# Altium footprint library PCB - CONNECTOR - WURTH - WURTH SMP 60114102122403.PcbLib: 1 footprints
Each footprint in its own frame and in the unit in brackets; x right, y up, seen from the top. Pads: shape width x height; smd on the part's side, far side on the other; paste and mask are expansions set on the pad; w line width, h text height; cw(c..) or ccw(c..) is an arc to the next point about the centre after c.
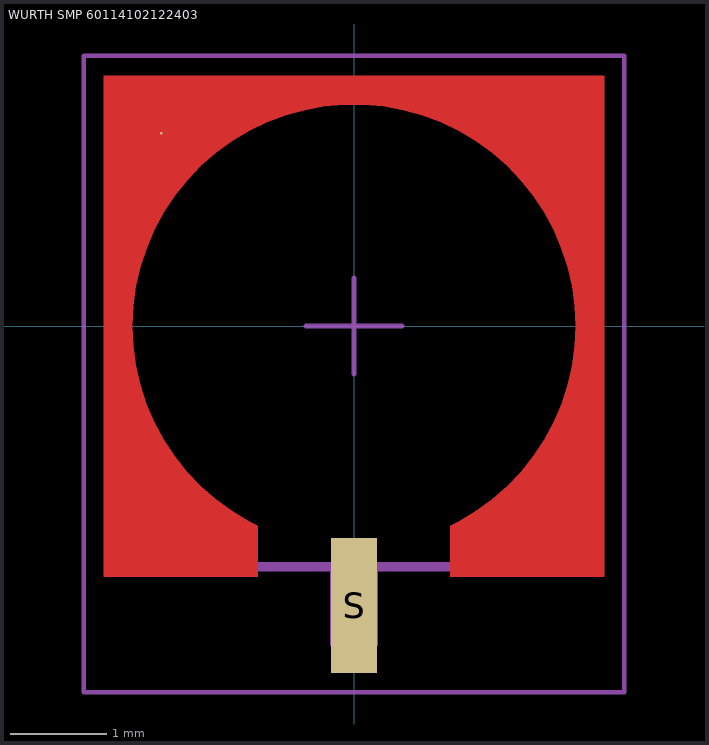
[diagram p0: the footprint, top view; thin cyan lines are the x and y axes]

## WURTH SMP 60114102122403 [mm] "SMP PCB SMT Plug"
height 4.1
pads (2):
  round 0.025 smd: G(-2,2)
  rect 0.48x1.4 smd: S(0,-2.9)
Top Layer:
  region: -2.6,-2.6 -2.6,2.6 2.6,2.6 2.6,-2.6 1,-2.6 1,-2.071 1.092,-2.024 1.269,-1.918 1.436,-1.797 1.591,-1.661 1.733,-1.512 1.862,-1.35 1.975,-1.178 2.073,-0.996 2.154,-0.807 2.218,-0.61 2.263,-0.409 2.291,-0.205 2.3,0.001 2.291,0.207 2.263,0.412 2.217,0.613 2.153,0.809 2.072,0.999 1.974,1.18 1.86,1.353 1.732,1.514 1.589,1.663 1.434,1.799 1.267,1.92 1.09,2.026 0.904,2.115 0.71,2.188 0.512,2.242 0.309,2.279 0.103,2.298 -0.103,2.298 -0.309,2.279 -0.512,2.242 -0.71,2.188 -0.904,2.115 -1.09,2.026 -1.267,1.92 -1.434,1.799 -1.589,1.663 -1.732,1.514 -1.86,1.353 -1.974,1.18 -2.072,0.999 -2.153,0.809 -2.217,0.613 -2.263,0.412 -2.291,0.207 -2.3,0.001 -2.291,-0.205 -2.263,-0.409 -2.218,-0.61 -2.154,-0.807 -2.073,-0.996 -1.975,-1.178 -1.862,-1.35 -1.733,-1.512 -1.591,-1.661 -1.436,-1.797 -1.269,-1.918 -1.092,-2.024 -1,-2.071 -1,-2.6
Top Component Center:
  lines w0.05: -0.5,0 0.5,0 ; 0,-0.5 0,0.5
Top Component Outline:
  lines w0.1: -2.5,-2.5 2.5,-2.5 ; -2.5,-2.5 -2.5,2.5 ; -2.5,-2.5 -2.5,2.5 ; -2.5,-2.5 2.5,-2.5 ; -2.5,2.5 2.5,2.5 ; -2.5,2.5 2.5,2.5 ; -0.2,-3.3 -0.2,-2.5 -0.2,-3.3 ; -0.2,-3.3 0.2,-3.3 ; -0.2,-3.3 0.2,-3.3 ; 0.2,-3.3 0.2,-2.5 0.2,-3.3 ; 2.5,-2.5 2.5,2.5 ; 2.5,-2.5 2.5,2.5
Top Courtyard:
  lines w0.05: -2.805,-3.8 -2.805,2.805 2.805,2.805 2.805,-3.8 -2.805,-3.8
3D body "Wurth 60114102122403.step": height 4.1, standoff 0, extent -2.5,-3.3 2.5,2.5